# EAGLE library part DPDT8I (library dec-con)
DPDT switch as used in 8/i.
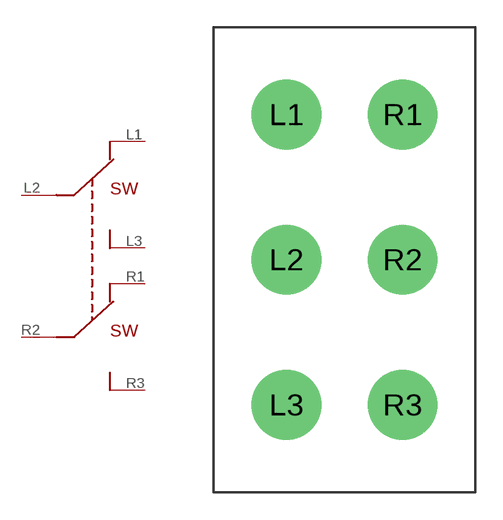
[diagram p34: symbol with the pads of DPDT8I; footprint DPDT8I]

Designator prefix SW

## DPDT8I  [DPDT8I]
L1  A1
L2  A2
L3  A3
R1  B1
R2  B2
R3  B3

## Footprint DPDT8I (pad centres in mm)
DPDT, 8/i non-momentary
drill 1.93 pad 3.81 round: L1 -3.175,7.938; L2 -3.175,0; L3 -3.175,-7.938; R1 3.175,7.938; R2 3.175,0; R3 3.175,-7.938